# Altium footprint library Connector_PinHeader_1.27mm.PcbLib: 278 footprints (part 2 of 18)
Each footprint in its own frame and in the unit in brackets; x right, y up, seen from the top. Pads: shape width x height; smd on the part's side, far side on the other; paste and mask are expansions set on the pad; w line width, h text height; cw(c..) or ccw(c..) is an arc to the next point about the centre after c.
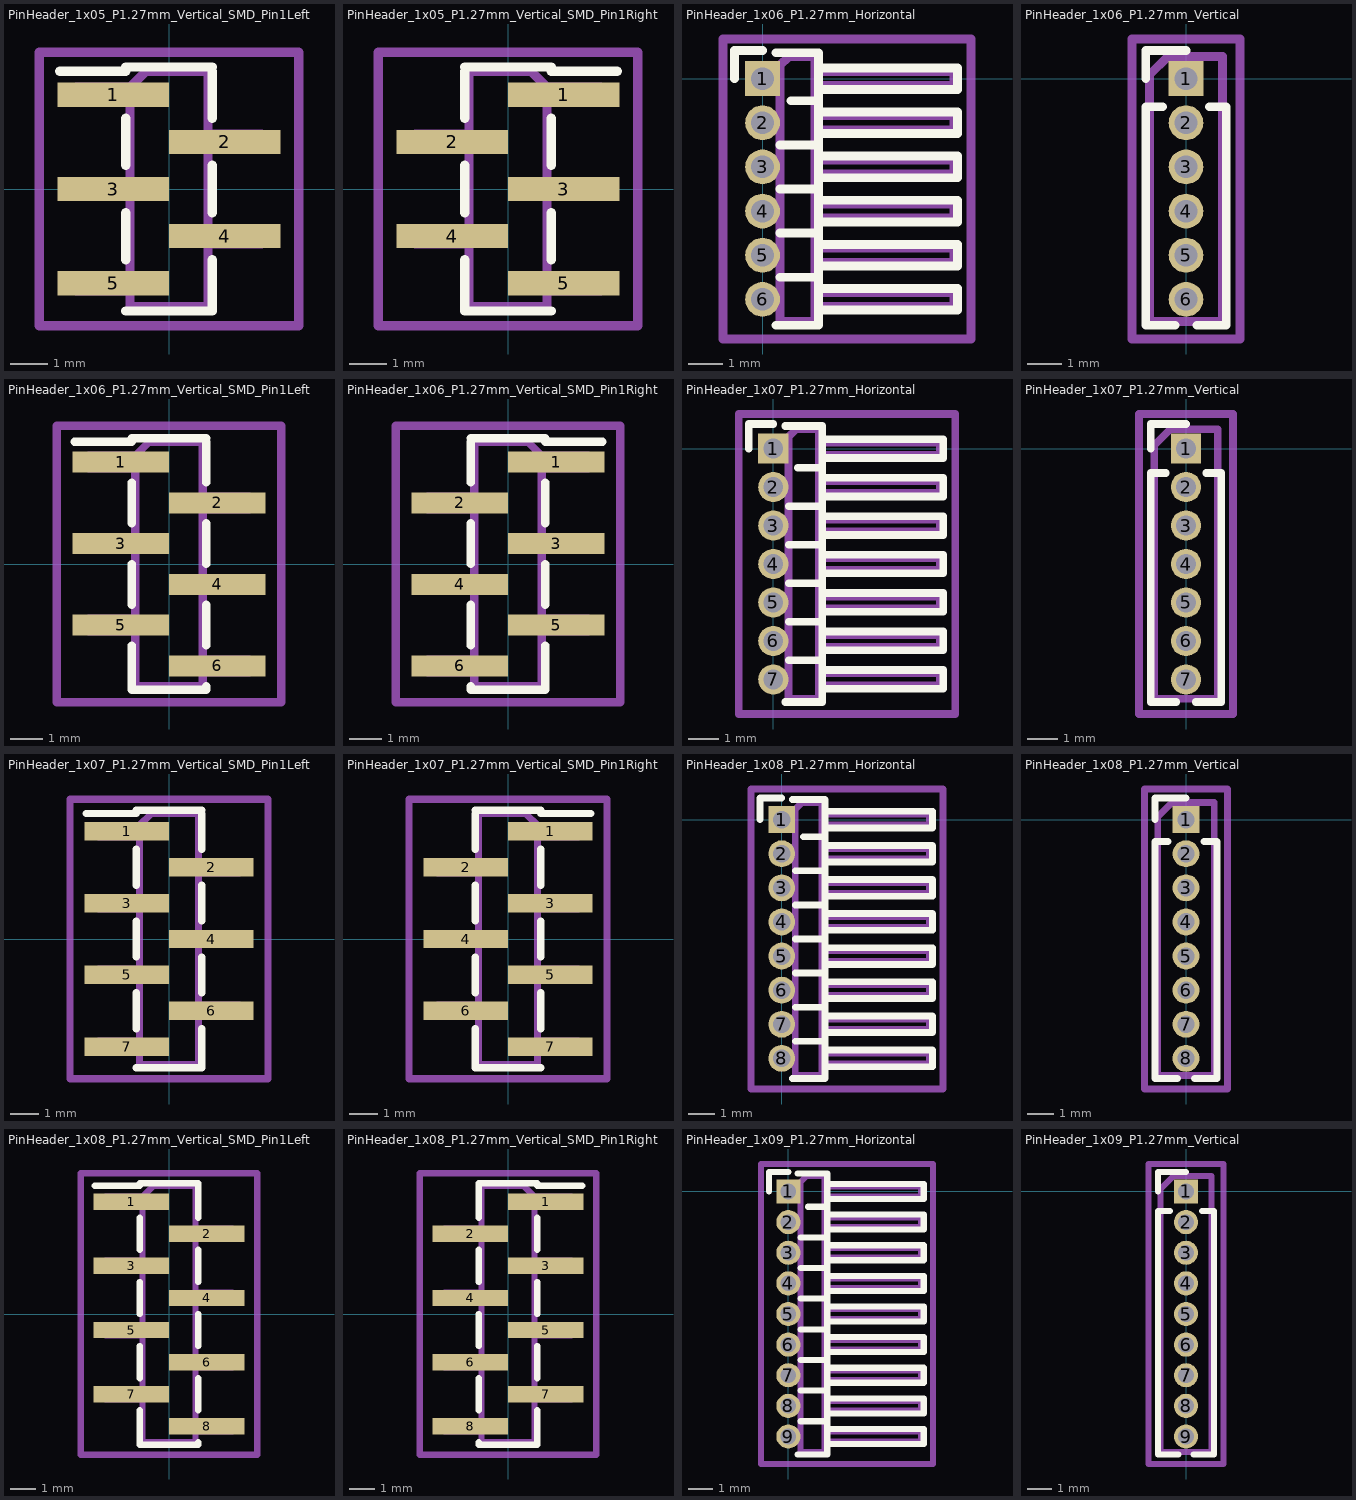
[diagram p1: the footprints below, top view; thin cyan lines are the x and y axes]

## PinHeader_1x05_P1.27mm_Vertical_SMD_Pin1Left [mm]
pads (5):
  rect 3x0.65 smd: 1(-1.5,2.54) 2(1.5,1.27) 3(-1.5,0) 4(1.5,-1.27) 5(-1.5,-2.54)
F.SilkS:
  lines w0.254: -2.94,3.175 -1.16,3.175 -1.16,3.285 1.16,3.285 ; -1.16,-3.285 1.16,-3.285 ; -1.16,-1.905 -1.16,-0.635 ; -1.16,0.635 -1.16,1.905 ; 1.16,-3.175 1.16,-3.285 ; 1.16,-1.905 1.16,-3.285 ; 1.16,-0.635 1.16,0.635 ; 1.16,1.905 1.16,3.175
Top Assembly:
  lines w0.254: -1.05,-2.74 -2.5,-2.74 -2.5,-2.34 -1.05,-2.34 ; -1.05,-0.2 -2.5,-0.2 -2.5,0.2 -1.05,0.2 ; -1.05,2.34 -2.5,2.34 -2.5,2.74 -1.05,2.74 ; 1.05,-1.47 2.5,-1.47 2.5,-1.07 1.05,-1.07 ; 1.05,1.07 2.5,1.07 2.5,1.47 1.05,1.47 ; -1.05,2.74 -1.05,-3.175 1.05,-3.175 1.05,3.175 -0.615,3.175 -1.05,2.74
  text "'.Designator'" at 0.84,-4.047 h1
Top Courtyard:
  lines w0.254: -3.5,-3.68 3.5,-3.68 3.5,3.68 -3.5,3.68 -3.5,-3.68
Top Designator:
  text ".Designator" at -7.618,-0.658 h1.52

## PinHeader_1x05_P1.27mm_Vertical_SMD_Pin1Right [mm]
pads (5):
  rect 3x0.65 smd: 1(1.5,2.54) 2(-1.5,1.27) 3(1.5,0) 4(-1.5,-1.27) 5(1.5,-2.54)
F.SilkS:
  lines w0.254: -1.16,-3.175 -1.16,-3.285 ; -1.16,-1.905 -1.16,-3.285 ; -1.16,-0.635 -1.16,0.635 ; -1.16,3.285 1.16,3.285 1.16,3.175 2.94,3.175 ; 1.16,-3.285 -1.16,-3.285 ; 1.16,-1.905 1.16,-0.635 ; 1.16,0.635 1.16,1.905 ; -1.16,1.905 -1.16,3.175 -1.16,1.905
Top Assembly:
  lines w0.254: -1.05,-1.47 -2.5,-1.47 -2.5,-1.07 -1.05,-1.07 ; -1.05,1.07 -2.5,1.07 -2.5,1.47 -1.05,1.47 ; 1.05,-2.74 2.5,-2.74 2.5,-2.34 1.05,-2.34 ; 1.05,-0.2 2.5,-0.2 2.5,0.2 1.05,0.2 ; 1.05,2.34 2.5,2.34 2.5,2.74 1.05,2.74 ; 1.05,2.74 1.05,-3.175 -1.05,-3.175 -1.05,3.175 0.615,3.175 1.05,2.74
  text "'.Designator'" at 0.84,-4.047 h1
Top Courtyard:
  lines w0.254: -3.5,-3.68 3.5,-3.68 3.5,3.68 -3.5,3.68 -3.5,-3.68
Top Designator:
  text ".Designator" at -7.618,-0.658 h1.52

## PinHeader_1x06_P1.27mm_Horizontal [mm]
pads (6):
  rect 1x1 hole 0.65: 1(0,0)
  round 1 hole 0.65: 2(0,-1.27) 3(0,-2.54) 4(0,-3.81) 5(0,-5.08) 6(0,-6.35)
F.SilkS:
  lines w0.254: -0.81,0 -0.81,0.81 0,0.81 ; 0.39,-7.095 1.61,-7.095 1.61,0.745 0.39,0.745 ; 0.503,-5.715 1.61,-5.715 ; 0.503,-4.445 1.61,-4.445 ; 0.503,-3.175 1.61,-3.175 ; 0.503,-1.905 1.61,-1.905 ; 0.81,-0.635 1.61,-0.635 ; 1.61,-6.66 5.61,-6.66 5.61,-6.04 1.61,-6.04 ; 1.61,-5.39 5.61,-5.39 5.61,-4.77 1.61,-4.77 ; 1.61,-4.12 5.61,-4.12 5.61,-3.5 1.61,-3.5 ; 1.61,-2.85 5.61,-2.85 5.61,-2.23 1.61,-2.23 ; 1.61,-1.58 5.61,-1.58 5.61,-0.96 1.61,-0.96 ; 1.61,-0.31 5.61,-0.31 5.61,0.31 1.61,0.31 1.61,-0.31
Top Assembly:
  lines w0.254: 0.5,-6.55 -0.2,-6.55 -0.2,-6.15 0.5,-6.15 ; 0.5,-5.28 -0.2,-5.28 -0.2,-4.88 0.5,-4.88 ; 0.5,-4.01 -0.2,-4.01 -0.2,-3.61 0.5,-3.61 ; 0.5,-2.74 -0.2,-2.74 -0.2,-2.34 0.5,-2.34 ; 0.5,-1.47 -0.2,-1.47 -0.2,-1.07 0.5,-1.07 ; 0.5,-0.2 -0.2,-0.2 -0.2,0.2 0.5,0.2 ; 1.5,-6.55 5.5,-6.55 5.5,-6.15 1.5,-6.15 ; 1.5,-5.28 5.5,-5.28 5.5,-4.88 1.5,-4.88 ; 1.5,-4.01 5.5,-4.01 5.5,-3.61 1.5,-3.61 ; 1.5,-2.74 5.5,-2.74 5.5,-2.34 1.5,-2.34 ; 1.5,-1.47 5.5,-1.47 5.5,-1.07 1.5,-1.07 ; 1.5,-0.2 5.5,-0.2 5.5,0.2 1.5,0.2 ; 0.5,-6.985 1.5,-6.985 1.5,0.635 0.75,0.635 0.5,0.385 0.5,-6.985
  text "'.Designator'" at 1.504,-5.603 h0.6
Top Courtyard:
  lines w0.254: -1.14,-7.49 6,-7.49 6,1.14 -1.14,1.14 -1.14,-7.49
Top Designator:
  text ".Designator" at -5.188,-3.683 h1.52

## PinHeader_1x06_P1.27mm_Vertical [mm]
pads (6):
  rect 1x1 hole 0.65: 1(0,0)
  round 1 hole 0.65: 2(0,-1.27) 3(0,-2.54) 4(0,-3.81) 5(0,-5.08) 6(0,-6.35)
F.SilkS:
  lines w0.254: -1.16,0 -1.16,0.81 0,0.81 ; -0.667,-0.81 -1.16,-0.81 -1.16,-7.095 -0.318,-7.095 ; 0.318,-7.095 1.16,-7.095 1.16,-0.81 0.667,-0.81
Top Assembly:
  lines w0.254: -1.05,-6.985 1.05,-6.985 1.05,0.635 -0.525,0.635 -1.05,0.11 -1.05,-6.985
  text "'.Designator'" at 0.84,-7.222 h1
Top Courtyard:
  lines w0.254: -1.55,-7.49 1.55,-7.49 1.55,1.14 -1.55,1.14 -1.55,-7.49
Top Designator:
  text ".Designator" at -7.618,-3.683 h1.52

## PinHeader_1x06_P1.27mm_Vertical_SMD_Pin1Left [mm]
pads (6):
  rect 3x0.65 smd: 1(-1.5,3.175) 2(1.5,1.905) 3(-1.5,0.635) 4(1.5,-0.635) 5(-1.5,-1.905) 6(1.5,-3.175)
F.SilkS:
  lines w0.254: -2.94,3.81 -1.16,3.81 -1.16,3.92 1.16,3.92 ; -1.16,-2.54 -1.16,-3.92 1.16,-3.92 1.16,-3.81 ; -1.16,-1.27 -1.16,0 ; -1.16,1.27 -1.16,2.54 ; 1.16,-2.54 1.16,-1.27 ; 1.16,0 1.16,1.27 ; 1.16,2.54 1.16,3.81
Top Assembly:
  lines w0.254: -1.05,-2.105 -2.5,-2.105 -2.5,-1.705 -1.05,-1.705 ; -1.05,0.435 -2.5,0.435 -2.5,0.835 -1.05,0.835 ; -1.05,2.975 -2.5,2.975 -2.5,3.375 -1.05,3.375 ; 1.05,-3.375 2.5,-3.375 2.5,-2.975 1.05,-2.975 ; 1.05,-0.835 2.5,-0.835 2.5,-0.435 1.05,-0.435 ; 1.05,1.705 2.5,1.705 2.5,2.105 1.05,2.105 ; -1.05,3.375 -1.05,-3.81 1.05,-3.81 1.05,3.81 -0.615,3.81 -1.05,3.375
  text "'.Designator'" at 0.84,-4.047 h1
Top Courtyard:
  lines w0.254: -3.5,-4.31 3.5,-4.31 3.5,4.31 -3.5,4.31 -3.5,-4.31
Top Designator:
  text ".Designator" at -7.618,-0.508 h1.52

## PinHeader_1x06_P1.27mm_Vertical_SMD_Pin1Right [mm]
pads (6):
  rect 3x0.65 smd: 1(1.5,3.175) 2(-1.5,1.905) 3(1.5,0.635) 4(-1.5,-0.635) 5(1.5,-1.905) 6(-1.5,-3.175)
F.SilkS:
  lines w0.254: -1.16,-3.81 -1.16,-3.92 1.16,-3.92 1.16,-2.54 ; -1.16,-2.54 -1.16,-1.27 ; -1.16,0 -1.16,1.27 ; -1.16,3.92 1.16,3.92 1.16,3.81 2.94,3.81 ; 1.16,-1.27 1.16,0 ; 1.16,1.27 1.16,2.54 ; -1.16,2.54 -1.16,3.81 -1.16,2.54
Top Assembly:
  lines w0.254: -1.05,-3.375 -2.5,-3.375 -2.5,-2.975 -1.05,-2.975 ; -1.05,-0.835 -2.5,-0.835 -2.5,-0.435 -1.05,-0.435 ; -1.05,1.705 -2.5,1.705 -2.5,2.105 -1.05,2.105 ; 1.05,-2.105 2.5,-2.105 2.5,-1.705 1.05,-1.705 ; 1.05,0.435 2.5,0.435 2.5,0.835 1.05,0.835 ; 1.05,2.975 2.5,2.975 2.5,3.375 1.05,3.375 ; 1.05,3.375 1.05,-3.81 -1.05,-3.81 -1.05,3.81 0.615,3.81 1.05,3.375
  text "'.Designator'" at 0.84,-4.047 h1
Top Courtyard:
  lines w0.254: -3.5,-4.31 3.5,-4.31 3.5,4.31 -3.5,4.31 -3.5,-4.31
Top Designator:
  text ".Designator" at -7.618,-0.508 h1.52

## PinHeader_1x07_P1.27mm_Horizontal [mm]
pads (7):
  rect 1x1 hole 0.65: 1(0,0)
  round 1 hole 0.65: 2(0,-1.27) 3(0,-2.54) 4(0,-3.81) 5(0,-5.08) 6(0,-6.35) 7(0,-7.62)
F.SilkS:
  lines w0.254: -0.81,0 -0.81,0.81 0,0.81 ; 0.39,-8.365 1.61,-8.365 1.61,0.745 0.39,0.745 ; 0.503,-6.985 1.61,-6.985 ; 0.503,-5.715 1.61,-5.715 ; 0.503,-4.445 1.61,-4.445 ; 0.503,-3.175 1.61,-3.175 ; 0.503,-1.905 1.61,-1.905 ; 0.81,-0.635 1.61,-0.635 ; 1.61,-7.93 5.61,-7.93 5.61,-7.31 1.61,-7.31 ; 1.61,-6.66 5.61,-6.66 5.61,-6.04 1.61,-6.04 ; 1.61,-5.39 5.61,-5.39 5.61,-4.77 1.61,-4.77 ; 1.61,-4.12 5.61,-4.12 5.61,-3.5 1.61,-3.5 ; 1.61,-2.85 5.61,-2.85 5.61,-2.23 1.61,-2.23 ; 1.61,-1.58 5.61,-1.58 5.61,-0.96 1.61,-0.96 ; 1.61,-0.31 5.61,-0.31 5.61,0.31 1.61,0.31 1.61,-0.31
Top Assembly:
  lines w0.254: 0.5,-7.82 -0.2,-7.82 -0.2,-7.42 0.5,-7.42 ; 0.5,-6.55 -0.2,-6.55 -0.2,-6.15 0.5,-6.15 ; 0.5,-5.28 -0.2,-5.28 -0.2,-4.88 0.5,-4.88 ; 0.5,-4.01 -0.2,-4.01 -0.2,-3.61 0.5,-3.61 ; 0.5,-2.74 -0.2,-2.74 -0.2,-2.34 0.5,-2.34 ; 0.5,-1.47 -0.2,-1.47 -0.2,-1.07 0.5,-1.07 ; 0.5,-0.2 -0.2,-0.2 -0.2,0.2 0.5,0.2 ; 1.5,-7.82 5.5,-7.82 5.5,-7.42 1.5,-7.42 ; 1.5,-6.55 5.5,-6.55 5.5,-6.15 1.5,-6.15 ; 1.5,-5.28 5.5,-5.28 5.5,-4.88 1.5,-4.88 ; 1.5,-4.01 5.5,-4.01 5.5,-3.61 1.5,-3.61 ; 1.5,-2.74 5.5,-2.74 5.5,-2.34 1.5,-2.34 ; 1.5,-1.47 5.5,-1.47 5.5,-1.07 1.5,-1.07 ; 1.5,-0.2 5.5,-0.2 5.5,0.2 1.5,0.2 ; 0.5,-8.255 1.5,-8.255 1.5,0.635 0.75,0.635 0.5,0.385 0.5,-8.255
  text "'.Designator'" at 1.504,-6.238 h0.6
Top Courtyard:
  lines w0.254: -1.14,-8.76 6,-8.76 6,1.14 -1.14,1.14 -1.14,-8.76
Top Designator:
  text ".Designator" at -5.188,-4.318 h1.52

## PinHeader_1x07_P1.27mm_Vertical [mm]
pads (7):
  rect 1x1 hole 0.65: 1(0,0)
  round 1 hole 0.65: 2(0,-1.27) 3(0,-2.54) 4(0,-3.81) 5(0,-5.08) 6(0,-6.35) 7(0,-7.62)
F.SilkS:
  lines w0.254: -1.16,0 -1.16,0.81 0,0.81 ; -0.667,-0.81 -1.16,-0.81 -1.16,-8.365 -0.318,-8.365 ; 0.318,-8.365 1.16,-8.365 1.16,-0.81 0.667,-0.81
Top Assembly:
  lines w0.254: -1.05,-8.255 1.05,-8.255 1.05,0.635 -0.525,0.635 -1.05,0.11 -1.05,-8.255
  text "'.Designator'" at 0.84,-7.857 h1
Top Courtyard:
  lines w0.254: -1.55,-8.76 1.55,-8.76 1.55,1.14 -1.55,1.14 -1.55,-8.76
Top Designator:
  text ".Designator" at -7.618,-4.318 h1.52

## PinHeader_1x07_P1.27mm_Vertical_SMD_Pin1Left [mm]
pads (7):
  rect 3x0.65 smd: 1(-1.5,3.81) 2(1.5,2.54) 3(-1.5,1.27) 4(1.5,0) 5(-1.5,-1.27) 6(1.5,-2.54) 7(-1.5,-3.81)
F.SilkS:
  lines w0.254: -2.94,4.445 -1.16,4.445 -1.16,4.555 1.16,4.555 ; -1.16,-4.555 1.16,-4.555 ; -1.16,-3.175 -1.16,-1.905 ; -1.16,-0.635 -1.16,0.635 ; -1.16,1.905 -1.16,3.175 ; 1.16,-4.445 1.16,-4.555 ; 1.16,-3.175 1.16,-4.555 ; 1.16,-1.905 1.16,-0.635 ; 1.16,0.635 1.16,1.905 ; 1.16,3.175 1.16,4.445
Top Assembly:
  lines w0.254: -1.05,-4.01 -2.5,-4.01 -2.5,-3.61 -1.05,-3.61 ; -1.05,-1.47 -2.5,-1.47 -2.5,-1.07 -1.05,-1.07 ; -1.05,1.07 -2.5,1.07 -2.5,1.47 -1.05,1.47 ; -1.05,3.61 -2.5,3.61 -2.5,4.01 -1.05,4.01 ; 1.05,-2.74 2.5,-2.74 2.5,-2.34 1.05,-2.34 ; 1.05,-0.2 2.5,-0.2 2.5,0.2 1.05,0.2 ; 1.05,2.34 2.5,2.34 2.5,2.74 1.05,2.74 ; -1.05,4.01 -1.05,-4.445 1.05,-4.445 1.05,4.445 -0.615,4.445 -1.05,4.01
  text "'.Designator'" at 0.84,-4.047 h1
Top Courtyard:
  lines w0.254: -3.5,-4.95 3.5,-4.95 3.5,4.95 -3.5,4.95 -3.5,-4.95
Top Designator:
  text ".Designator" at -7.618,-0.508 h1.52

## PinHeader_1x07_P1.27mm_Vertical_SMD_Pin1Right [mm]
pads (7):
  rect 3x0.65 smd: 1(1.5,3.81) 2(-1.5,2.54) 3(1.5,1.27) 4(-1.5,0) 5(1.5,-1.27) 6(-1.5,-2.54) 7(1.5,-3.81)
F.SilkS:
  lines w0.254: -1.16,-4.445 -1.16,-4.555 ; -1.16,-3.175 -1.16,-4.555 ; -1.16,-1.905 -1.16,-0.635 ; -1.16,0.635 -1.16,1.905 ; -1.16,4.555 1.16,4.555 1.16,4.445 2.94,4.445 ; 1.16,-4.555 -1.16,-4.555 ; 1.16,-3.175 1.16,-1.905 ; 1.16,-0.635 1.16,0.635 ; 1.16,1.905 1.16,3.175 ; -1.16,3.175 -1.16,4.445 -1.16,3.175
Top Assembly:
  lines w0.254: -1.05,-2.74 -2.5,-2.74 -2.5,-2.34 -1.05,-2.34 ; -1.05,-0.2 -2.5,-0.2 -2.5,0.2 -1.05,0.2 ; -1.05,2.34 -2.5,2.34 -2.5,2.74 -1.05,2.74 ; 1.05,-4.01 2.5,-4.01 2.5,-3.61 1.05,-3.61 ; 1.05,-1.47 2.5,-1.47 2.5,-1.07 1.05,-1.07 ; 1.05,1.07 2.5,1.07 2.5,1.47 1.05,1.47 ; 1.05,3.61 2.5,3.61 2.5,4.01 1.05,4.01 ; 1.05,4.01 1.05,-4.445 -1.05,-4.445 -1.05,4.445 0.615,4.445 1.05,4.01
  text "'.Designator'" at 0.84,-4.047 h1
Top Courtyard:
  lines w0.254: -3.5,-4.95 3.5,-4.95 3.5,4.95 -3.5,4.95 -3.5,-4.95
Top Designator:
  text ".Designator" at -7.618,-0.508 h1.52

## PinHeader_1x08_P1.27mm_Horizontal [mm]
pads (8):
  rect 1x1 hole 0.65: 1(0,0)
  round 1 hole 0.65: 2(0,-1.27) 3(0,-2.54) 4(0,-3.81) 5(0,-5.08) 6(0,-6.35) 7(0,-7.62) 8(0,-8.89)
F.SilkS:
  lines w0.254: -0.81,0 -0.81,0.81 0,0.81 ; 0.39,-9.635 1.61,-9.635 1.61,0.745 0.39,0.745 ; 0.503,-8.255 1.61,-8.255 ; 0.503,-6.985 1.61,-6.985 ; 0.503,-5.715 1.61,-5.715 ; 0.503,-4.445 1.61,-4.445 ; 0.503,-3.175 1.61,-3.175 ; 0.503,-1.905 1.61,-1.905 ; 0.81,-0.635 1.61,-0.635 ; 1.61,-9.2 5.61,-9.2 5.61,-8.58 1.61,-8.58 ; 1.61,-7.93 5.61,-7.93 5.61,-7.31 1.61,-7.31 ; 1.61,-6.66 5.61,-6.66 5.61,-6.04 1.61,-6.04 ; 1.61,-5.39 5.61,-5.39 5.61,-4.77 1.61,-4.77 ; 1.61,-4.12 5.61,-4.12 5.61,-3.5 1.61,-3.5 ; 1.61,-2.85 5.61,-2.85 5.61,-2.23 1.61,-2.23 ; 1.61,-1.58 5.61,-1.58 5.61,-0.96 1.61,-0.96 ; 1.61,-0.31 5.61,-0.31 5.61,0.31 1.61,0.31 1.61,-0.31
Top Assembly:
  lines w0.254: 0.5,-9.09 -0.2,-9.09 -0.2,-8.69 0.5,-8.69 ; 0.5,-7.82 -0.2,-7.82 -0.2,-7.42 0.5,-7.42 ; 0.5,-6.55 -0.2,-6.55 -0.2,-6.15 0.5,-6.15 ; 0.5,-5.28 -0.2,-5.28 -0.2,-4.88 0.5,-4.88 ; 0.5,-4.01 -0.2,-4.01 -0.2,-3.61 0.5,-3.61 ; 0.5,-2.74 -0.2,-2.74 -0.2,-2.34 0.5,-2.34 ; 0.5,-1.47 -0.2,-1.47 -0.2,-1.07 0.5,-1.07 ; 0.5,-0.2 -0.2,-0.2 -0.2,0.2 0.5,0.2 ; 1.5,-9.09 5.5,-9.09 5.5,-8.69 1.5,-8.69 ; 1.5,-7.82 5.5,-7.82 5.5,-7.42 1.5,-7.42 ; 1.5,-6.55 5.5,-6.55 5.5,-6.15 1.5,-6.15 ; 1.5,-5.28 5.5,-5.28 5.5,-4.88 1.5,-4.88 ; 1.5,-4.01 5.5,-4.01 5.5,-3.61 1.5,-3.61 ; 1.5,-2.74 5.5,-2.74 5.5,-2.34 1.5,-2.34 ; 1.5,-1.47 5.5,-1.47 5.5,-1.07 1.5,-1.07 ; 1.5,-0.2 5.5,-0.2 5.5,0.2 1.5,0.2 ; 0.5,-9.525 1.5,-9.525 1.5,0.635 0.75,0.635 0.5,0.385 0.5,-9.525
  text "'.Designator'" at 1.504,-6.873 h0.6
Top Courtyard:
  lines w0.254: -1.14,-10.03 6,-10.03 6,1.14 -1.14,1.14 -1.14,-10.03
Top Designator:
  text ".Designator" at -5.188,-4.953 h1.52

## PinHeader_1x08_P1.27mm_Vertical [mm]
pads (8):
  rect 1x1 hole 0.65: 1(0,0)
  round 1 hole 0.65: 2(0,-1.27) 3(0,-2.54) 4(0,-3.81) 5(0,-5.08) 6(0,-6.35) 7(0,-7.62) 8(0,-8.89)
F.SilkS:
  lines w0.254: -1.16,0 -1.16,0.81 0,0.81 ; -0.667,-0.81 -1.16,-0.81 -1.16,-9.635 -0.318,-9.635 ; 0.318,-9.635 1.16,-9.635 1.16,-0.81 0.667,-0.81
Top Assembly:
  lines w0.254: -1.05,-9.525 1.05,-9.525 1.05,0.635 -0.525,0.635 -1.05,0.11 -1.05,-9.525
  text "'.Designator'" at 0.84,-8.492 h1
Top Courtyard:
  lines w0.254: -1.55,-10.03 1.55,-10.03 1.55,1.14 -1.55,1.14 -1.55,-10.03
Top Designator:
  text ".Designator" at -7.618,-4.953 h1.52

## PinHeader_1x08_P1.27mm_Vertical_SMD_Pin1Left [mm]
pads (8):
  rect 3x0.65 smd: 1(-1.5,4.445) 2(1.5,3.175) 3(-1.5,1.905) 4(1.5,0.635) 5(-1.5,-0.635) 6(1.5,-1.905) 7(-1.5,-3.175) 8(1.5,-4.445)
F.SilkS:
  lines w0.254: -2.94,5.08 -1.16,5.08 -1.16,5.19 1.16,5.19 ; -1.16,-3.81 -1.16,-5.19 1.16,-5.19 1.16,-5.08 ; -1.16,-2.54 -1.16,-1.27 ; -1.16,0 -1.16,1.27 ; -1.16,2.54 -1.16,3.81 ; 1.16,-3.81 1.16,-2.54 ; 1.16,-1.27 1.16,0 ; 1.16,1.27 1.16,2.54 ; 1.16,3.81 1.16,5.08
Top Assembly:
  lines w0.254: -1.05,-3.375 -2.5,-3.375 -2.5,-2.975 -1.05,-2.975 ; -1.05,-0.835 -2.5,-0.835 -2.5,-0.435 -1.05,-0.435 ; -1.05,1.705 -2.5,1.705 -2.5,2.105 -1.05,2.105 ; -1.05,4.245 -2.5,4.245 -2.5,4.645 -1.05,4.645 ; 1.05,-4.645 2.5,-4.645 2.5,-4.245 1.05,-4.245 ; 1.05,-2.105 2.5,-2.105 2.5,-1.705 1.05,-1.705 ; 1.05,0.435 2.5,0.435 2.5,0.835 1.05,0.835 ; 1.05,2.975 2.5,2.975 2.5,3.375 1.05,3.375 ; -1.05,4.645 -1.05,-5.08 1.05,-5.08 1.05,5.08 -0.615,5.08 -1.05,4.645
  text "'.Designator'" at 0.84,-4.047 h1
Top Courtyard:
  lines w0.254: -3.5,-5.58 3.5,-5.58 3.5,5.58 -3.5,5.58 -3.5,-5.58
Top Designator:
  text ".Designator" at -7.618,-0.508 h1.52

## PinHeader_1x08_P1.27mm_Vertical_SMD_Pin1Right [mm]
pads (8):
  rect 3x0.65 smd: 1(1.5,4.445) 2(-1.5,3.175) 3(1.5,1.905) 4(-1.5,0.635) 5(1.5,-0.635) 6(-1.5,-1.905) 7(1.5,-3.175) 8(-1.5,-4.445)
F.SilkS:
  lines w0.254: -1.16,-5.08 -1.16,-5.19 1.16,-5.19 1.16,-3.81 ; -1.16,-3.81 -1.16,-2.54 ; -1.16,-1.27 -1.16,0 ; -1.16,1.27 -1.16,2.54 ; -1.16,5.19 1.16,5.19 1.16,5.08 2.94,5.08 ; 1.16,-2.54 1.16,-1.27 ; 1.16,0 1.16,1.27 ; 1.16,2.54 1.16,3.81 ; -1.16,3.81 -1.16,5.08 -1.16,3.81
Top Assembly:
  lines w0.254: -1.05,-4.645 -2.5,-4.645 -2.5,-4.245 -1.05,-4.245 ; -1.05,-2.105 -2.5,-2.105 -2.5,-1.705 -1.05,-1.705 ; -1.05,0.435 -2.5,0.435 -2.5,0.835 -1.05,0.835 ; -1.05,2.975 -2.5,2.975 -2.5,3.375 -1.05,3.375 ; 1.05,-3.375 2.5,-3.375 2.5,-2.975 1.05,-2.975 ; 1.05,-0.835 2.5,-0.835 2.5,-0.435 1.05,-0.435 ; 1.05,1.705 2.5,1.705 2.5,2.105 1.05,2.105 ; 1.05,4.245 2.5,4.245 2.5,4.645 1.05,4.645 ; 1.05,4.645 1.05,-5.08 -1.05,-5.08 -1.05,5.08 0.615,5.08 1.05,4.645
  text "'.Designator'" at 0.84,-4.047 h1
Top Courtyard:
  lines w0.254: -3.5,-5.58 3.5,-5.58 3.5,5.58 -3.5,5.58 -3.5,-5.58
Top Designator:
  text ".Designator" at -7.618,-0.508 h1.52

## PinHeader_1x09_P1.27mm_Horizontal [mm]
pads (9):
  rect 1x1 hole 0.65: 1(0,0)
  round 1 hole 0.65: 2(0,-1.27) 3(0,-2.54) 4(0,-3.81) 5(0,-5.08) 6(0,-6.35) 7(0,-7.62) 8(0,-8.89) 9(0,-10.16)
F.SilkS:
  lines w0.254: -0.81,0 -0.81,0.81 0,0.81 ; 0.39,-10.905 1.61,-10.905 1.61,0.745 0.39,0.745 ; 0.503,-9.525 1.61,-9.525 ; 0.503,-8.255 1.61,-8.255 ; 0.503,-6.985 1.61,-6.985 ; 0.503,-5.715 1.61,-5.715 ; 0.503,-4.445 1.61,-4.445 ; 0.503,-3.175 1.61,-3.175 ; 0.503,-1.905 1.61,-1.905 ; 0.81,-0.635 1.61,-0.635 ; 1.61,-10.47 5.61,-10.47 5.61,-9.85 1.61,-9.85 ; 1.61,-9.2 5.61,-9.2 5.61,-8.58 1.61,-8.58 ; 1.61,-7.93 5.61,-7.93 5.61,-7.31 1.61,-7.31 ; 1.61,-6.66 5.61,-6.66 5.61,-6.04 1.61,-6.04 ; 1.61,-5.39 5.61,-5.39 5.61,-4.77 1.61,-4.77 ; 1.61,-4.12 5.61,-4.12 5.61,-3.5 1.61,-3.5 ; 1.61,-2.85 5.61,-2.85 5.61,-2.23 1.61,-2.23 ; 1.61,-1.58 5.61,-1.58 5.61,-0.96 1.61,-0.96 ; 1.61,-0.31 5.61,-0.31 5.61,0.31 1.61,0.31 1.61,-0.31
Top Assembly:
  lines w0.254: 0.5,-10.36 -0.2,-10.36 -0.2,-9.96 0.5,-9.96 ; 0.5,-9.09 -0.2,-9.09 -0.2,-8.69 0.5,-8.69 ; 0.5,-7.82 -0.2,-7.82 -0.2,-7.42 0.5,-7.42 ; 0.5,-6.55 -0.2,-6.55 -0.2,-6.15 0.5,-6.15 ; 0.5,-5.28 -0.2,-5.28 -0.2,-4.88 0.5,-4.88 ; 0.5,-4.01 -0.2,-4.01 -0.2,-3.61 0.5,-3.61 ; 0.5,-2.74 -0.2,-2.74 -0.2,-2.34 0.5,-2.34 ; 0.5,-1.47 -0.2,-1.47 -0.2,-1.07 0.5,-1.07 ; 0.5,-0.2 -0.2,-0.2 -0.2,0.2 0.5,0.2 ; 1.5,-10.36 5.5,-10.36 5.5,-9.96 1.5,-9.96 ; 1.5,-9.09 5.5,-9.09 5.5,-8.69 1.5,-8.69 ; 1.5,-7.82 5.5,-7.82 5.5,-7.42 1.5,-7.42 ; 1.5,-6.55 5.5,-6.55 5.5,-6.15 1.5,-6.15 ; 1.5,-5.28 5.5,-5.28 5.5,-4.88 1.5,-4.88 ; 1.5,-4.01 5.5,-4.01 5.5,-3.61 1.5,-3.61 ; 1.5,-2.74 5.5,-2.74 5.5,-2.34 1.5,-2.34 ; 1.5,-1.47 5.5,-1.47 5.5,-1.07 1.5,-1.07 ; 1.5,-0.2 5.5,-0.2 5.5,0.2 1.5,0.2 ; 0.5,-10.795 1.5,-10.795 1.5,0.635 0.75,0.635 0.5,0.385 0.5,-10.795
  text "'.Designator'" at 1.504,-7.508 h0.6
Top Courtyard:
  lines w0.254: -1.14,-11.3 6,-11.3 6,1.14 -1.14,1.14 -1.14,-11.3
Top Designator:
  text ".Designator" at -5.188,-5.588 h1.52

## PinHeader_1x09_P1.27mm_Vertical [mm]
pads (9):
  rect 1x1 hole 0.65: 1(0,0)
  round 1 hole 0.65: 2(0,-1.27) 3(0,-2.54) 4(0,-3.81) 5(0,-5.08) 6(0,-6.35) 7(0,-7.62) 8(0,-8.89) 9(0,-10.16)
F.SilkS:
  lines w0.254: -1.16,0 -1.16,0.81 0,0.81 ; -0.667,-0.81 -1.16,-0.81 -1.16,-10.905 -0.318,-10.905 ; 0.318,-10.905 1.16,-10.905 1.16,-0.81 0.667,-0.81
Top Assembly:
  lines w0.254: -1.05,-10.795 1.05,-10.795 1.05,0.635 -0.525,0.635 -1.05,0.11 -1.05,-10.795
  text "'.Designator'" at 0.84,-9.127 h1
Top Courtyard:
  lines w0.254: -1.55,-11.3 1.55,-11.3 1.55,1.14 -1.55,1.14 -1.55,-11.3
Top Designator:
  text ".Designator" at -7.618,-5.588 h1.52